# Altium footprint library pth-connector.PcbLib: 13 footprints
Each footprint in its own frame and in the unit in brackets; x right, y up, seen from the top. Pads: shape width x height; smd on the part's side, far side on the other; paste and mask are expansions set on the pad; w line width, h text height; cw(c..) or ccw(c..) is an arc to the next point about the centre after c.
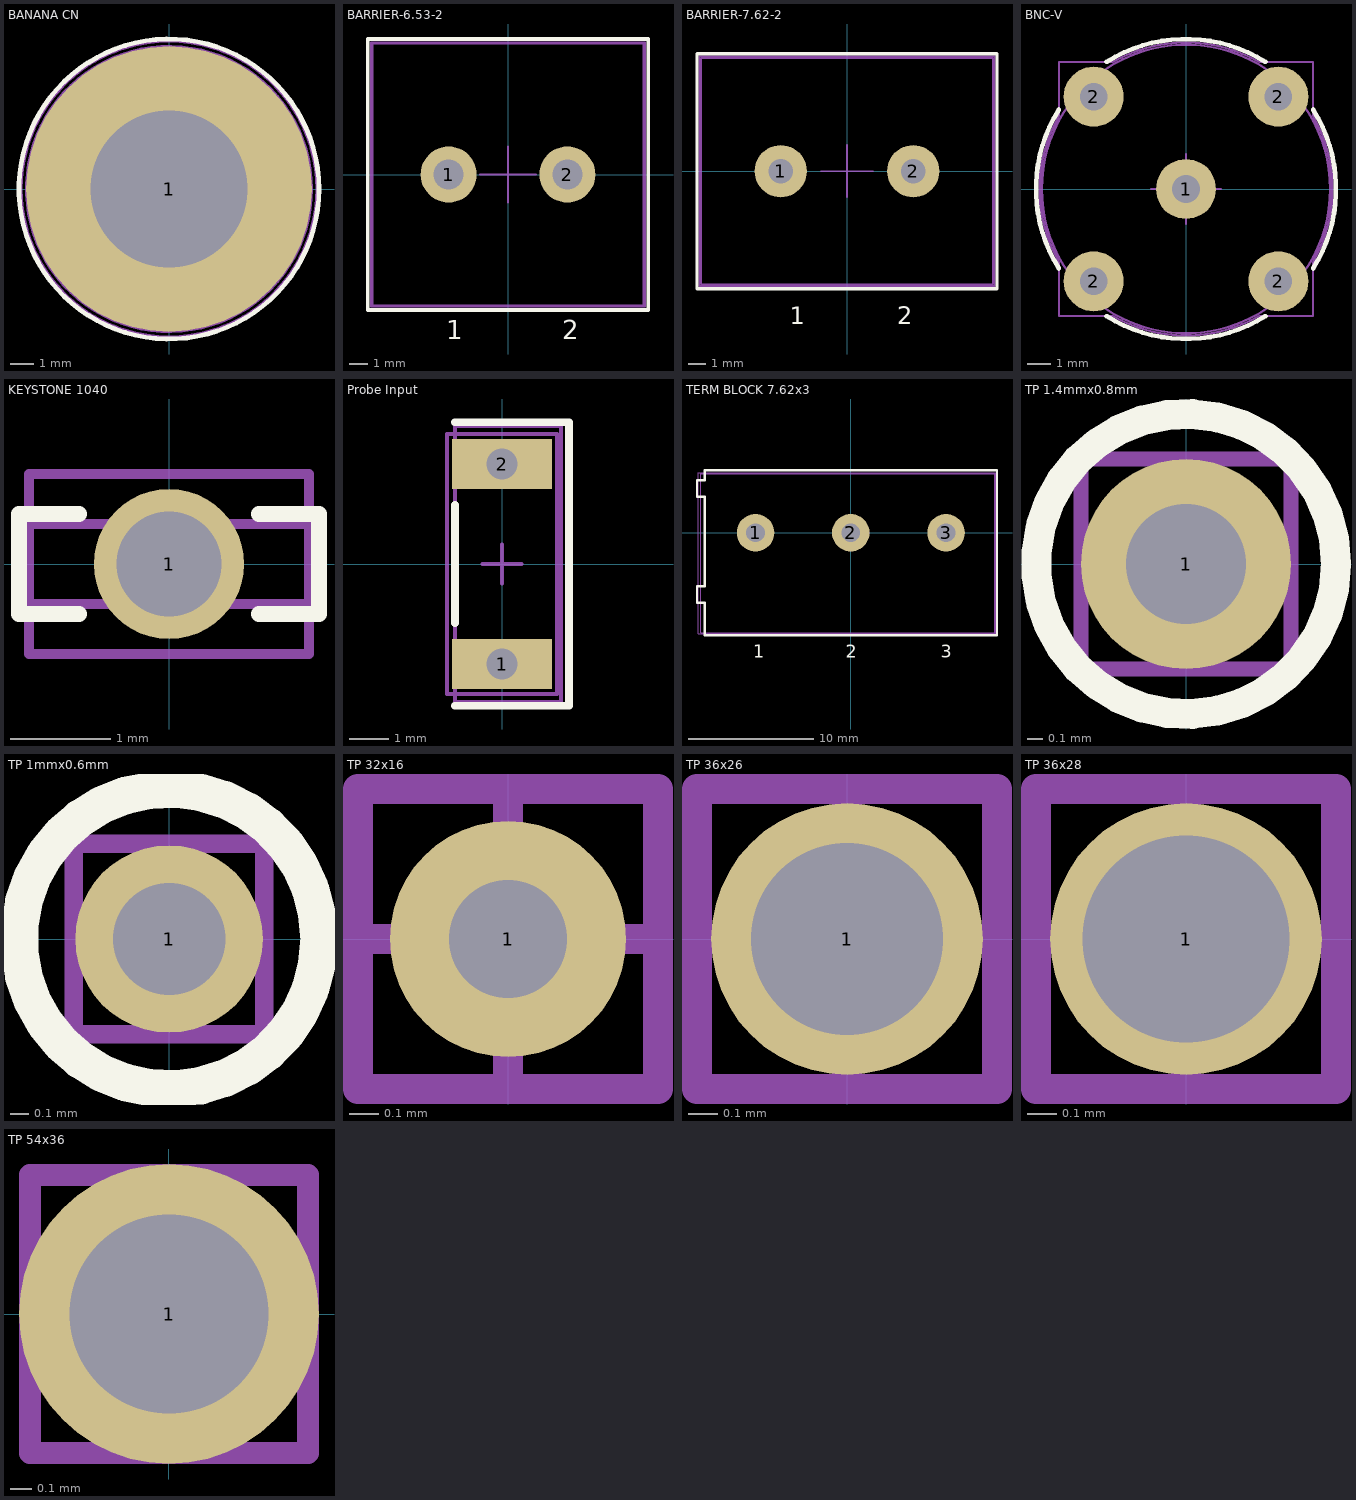
[diagram p0: the footprints below, top view; thin cyan lines are the x and y axes]

## BANANA CN [mm]
height 0.1
pads (1):
  round 12 hole 6.6: 1(0,0)
Top Overlay:
  circle w0.2: c0,0 r6.3
Top Outline:
  circle w0.1: c0,0 r6
  lines w0.1: -2.4,0 2.4,0 ; 0,-2.2 0,2.2
Top Assembly:
  circle w0.1: c0,0 r6.2
  text ".Designator" at -0.6,-0.2 h0.5
3D body: height 8, standoff 0, extent -3.237,-3.244 3.237,3.244

## BARRIER-6.53-2 [mm] "Barrier Terminal Block; 6.35 Pitch; 2 Positions"
height 15
pads (2):
  round 3 hole 1.6: 1(-3.175,0) 2(3.175,0)
Top Overlay:
  lines w0.2: -7.5,-7.25 -7.5,7.25 7.5,7.25 7.5,-7.25 -7.5,-7.25
  text "2" at 2.9,-8.8 h1.02
  text "1" at -3.3,-8.8 h1.02
Top Outline:
  lines w0.1: -1.5,0 1.5,0 ; 0,-1.5 0,1.5 ; -7.25,-7 7.25,-7 7.25,7 -7.25,7 -7.25,-7
Top Assembly:
  lines w0.1: -7.325,-7.075 7.325,-7.075 7.325,7.075 -7.325,7.075 -7.325,-7.075
  text ".Designator" at -2.45,-4.35 h0.5
3D body: height 7.5, standoff 0, extent -5.65,-6 -0.7,6
3D body: height 7.5, standoff 0, extent 0.7,-6 5.65,6.1
3D body: height 15, standoff 0, extent -0.7,-7 0.7,7
3D body: height 15, standoff 0, extent -7.25,-7 -5.65,7
3D body: height 15, standoff 0, extent 5.65,-7 7.25,7
3D body: height 10, standoff 7.5, extent -5.167,-1.996 -1.183,1.996
3D body: height 10, standoff 7.5, extent 1.183,-1.996 5.167,1.996

## BARRIER-7.62-2 [mm] "Barrier Terminal Block; 7.62mm Pitch; 2 Positions"
height 14.5
pads (2):
  round 3 hole 1.4: 1(-3.81,0) 2(3.81,0)
Top Overlay:
  lines w0.2: -8.625,-6.75 8.625,-6.75 8.625,6.75 -8.625,6.75 -8.625,-6.75
  text "1" at -3.3,-8.8 h1.02
  text "2" at 2.9,-8.8 h1.02
Top Outline:
  lines w0.1: -1.5,0 1.5,0 ; 0,-1.5 0,1.5 ; -8.375,-6.5 -8.375,6.5 8.375,6.5 8.375,-6.5 -8.375,-6.5
Top Assembly:
  lines w0.1: -8.475,-6.6 -8.475,6.6 8.475,6.6 8.475,-6.6 -8.475,-6.6
  text ".Designator" at -2.45,-4.35 h0.5
3D body "st-313.stp": height 14.5, standoff -4, extent -8.37,-6.5 8.37,6.5

## BNC-V [mm] "Connector; BNC Vertical"
height 12
pads (5):
  round 2.6 hole 1.2: 1(0,0) 2(-4,-4) 2(-4,4) 2(4,-4) 2(4,4)
Top Overlay:
  lines w0.2: -5.512,-3.444 cw(c0,0) -5.512,3.444 ; -3.444,-5.512 ccw(c0,0) 3.444,-5.512 ; -3.444,5.512 cw(c0,0) 3.444,5.512 ; 5.512,-3.444 ccw(c0,0) 5.512,3.444
Top Outline:
  circle w0.1: c0,0 r6.25
  lines w0.1: -1.5,0 1.5,0 ; 0,-1.5 0,1.5
Top Assembly:
  lines w0.1: -5.5,-3.175 -5.5,-5.5 -3.175,-5.5 ; -5.5,3.175 -5.5,5.5 -3.175,5.5 ; -5.499,-3.175 cw(c0,0) -5.499,3.175 ; -3.175,-5.499 ccw(c0,0) 3.175,-5.499 ; -3.175,5.499 cw(c0,0) 3.175,5.499 ; 3.175,-5.5 5.5,-5.5 5.5,-3.175 ; 3.175,5.5 5.5,5.5 5.5,3.175 ; 5.499,-3.175 ccw(c0,0) 5.499,3.175
  text ".Designator" at -2.25,-2.25 h0.5
3D body "c-5414394-01-o-3d.stp": height 16.6, standoff -4.48, extent -5.512,-5.512 5.512,5.512

## KEYSTONE 1040 [mm] "Test point, 2.8mm"
height 0.1
pads (1):
  round 1.5 hole 1.05: 1(0,0)
Top Overlay:
  lines w0.16: -0.9,-0.5 -1.5,-0.5 -1.5,0.5 -0.9,0.5 ; 0.9,-0.5 1.5,-0.5 1.5,0.5 0.9,0.5
Top Outline:
  lines w0.1: -0.5,0 0.5,0 ; 0,-0.5 0,0.5 ; -1.4,-0.4 -1.4,0.4 1.4,0.4 1.4,-0.4 -1.4,-0.4
Top Assembly:
  lines w0.1: -1.4,-0.9 -1.4,0.9 1.4,0.9 1.4,-0.9 -1.4,-0.9
  text ".Designator" at -1.2,-0.2 h0.5
3D body: height 0, standoff -2.9, extent -0.4,-0.3 0.4,0.3
3D body: height 6.6, standoff 6.2, extent -0.6,-0.3 0.6,0.3
3D body: height 7, standoff 1.8, extent 0.6,-0.3 1.4,0.3
3D body: height 7, standoff 1.8, extent -1.4,-0.3 -0.6,0.3
3D body: height 2.2, standoff 0, extent -1.2,-0.3 1.2,0.3

## Probe Input [mil]
height 78.74
pads (2):
  rect 100x50 / inner round 44 / far side round 44 hole 31: 1(0,-100) 2(0,100)
Top Overlay:
  lines w7.87: -47.24,-141.73 66.93,-141.73 66.93,141.73 -47.24,141.73 ; -47.24,-59.06 -47.24,59.06
Top Outline:
  lines w3.94: -19.68,0 19.68,0 ; 0,-19.68 0,19.69 ; -55.12,-129.92 55.12,-129.92 55.12,129.92 -55.12,129.92 -55.12,-129.92
Top Assembly:
  lines w3.94: -47.24,-137.8 59.06,-137.8 59.06,137.8 -47.24,137.8 -47.24,-137.8
  text ".Designator" at 7.87,-59.06 h19.68

## TERM BLOCK 7.62x3 [mm] "Terminal Block; 7.62 mm Pitch; 3 Positions"
height 10
pads (3):
  round 3 hole 1.5: 1(-7.62,0) 2(0,0) 3(7.62,0)
Top Overlay:
  lines w0.2: -12.3,-5.6 -12.3,-4.3 -11.7,-4.3 -11.7,2.9 -12.3,2.9 -12.3,4.2 -11.7,4.2 -11.7,5 11.7,5 11.7,-8.2 -11.7,-8.2 -11.7,-5.6 -12.3,-5.6
  text "3" at 7.2,-10 h1.02
  text "1" at -7.8,-10 h1.02
  text "2" at -0.4,-10 h1.02
Top Outline:
  lines w0.1: -1.5,0 1.5,0 ; 0,-1.5 0,1.5 ; -12,-8 -12,4.7 11.5,4.7 11.5,-8 -12,-8
Top Assembly:
  lines w0.1: -12.2,-8.1 -12.2,4.8 11.6,4.8 11.6,-8.1 -12.2,-8.1
  text ".Designator" at -3,-2.4 h0.8
3D body "1704936_03.stp": height 21.6, standoff -4.9, extent -12.015,-7.9 11.415,4.6

## TP 1.4mmx0.8mm [mm] "Test point, 1.4mm pad, 0.8mm hole"
pads (1):
  round 1.4 / inner round 1.2 / far side round 1.4 hole 0.8: 1(0,0)
Top Overlay:
  circle w0.2: c0,0 r1
Top Outline:
  lines w0.1: -0.5,0 0.5,0 ; 0,-0.5 0,0.5 ; -0.7,-0.7 -0.7,0.7 0.7,0.7 0.7,-0.7 -0.7,-0.7
Top Assembly:
  lines w0.1: -0.7,-0.7 -0.7,0.7 0.7,0.7 0.7,-0.7 -0.7,-0.7
  text ".Designator" at 1.2,-0.3 h0.5

## TP 1mmx0.6mm [mm] "Test point, 1mm pad, 0.6mm hole"
pads (1):
  round 1 hole 0.6: 1(0,0)
Top Overlay:
  circle w0.2: c0,0 r0.8
Top Outline:
  lines w0.1: -0.5,0 0.5,0 ; 0,-0.5 0,0.5 ; -0.508,-0.508 0.508,-0.508 0.508,0.508 -0.508,0.508 -0.508,-0.508
Top Assembly:
  lines w0.1: -0.508,-0.508 0.508,-0.508 0.508,0.508 -0.508,0.508 -0.508,-0.508
  text ".Designator" at 0.635,-0.635 h0.5

## TP 32x16 [mm] "Test point, 32mil pad, 16mil hole"
height 0.1
pads (1):
  round 0.8 / inner round 0.6 / far side round 0.8 hole 0.4: 1(0,0)
Top Outline:
  lines w0.1: -0.5,0 0.5,0 ; 0,-0.5 0,0.5 ; -0.508,-0.508 0.508,-0.508 0.508,0.508 -0.508,0.508 -0.508,-0.508
Top Assembly:
  lines w0.1: -0.508,-0.508 0.508,-0.508 0.508,0.508 -0.508,0.508 -0.508,-0.508
  text ".Designator" at 0.635,-0.635 h0.5

## TP 36x26 [mm] "Test point, 36mil pad, 26mil hole"
height 0.1
pads (1):
  round 0.92 hole 0.65: 1(0,0)
Top Outline:
  lines w0.1: -0.5,0 0.5,0 ; 0,-0.5 0,0.5 ; -0.508,-0.508 -0.508,0.508 0.508,0.508 0.508,-0.508 -0.508,-0.508
Top Assembly:
  lines w0.1: -0.508,-0.508 -0.508,0.508 0.508,0.508 0.508,-0.508 -0.508,-0.508
  text ".Designator" at 0.635,-0.635 h0.5

## TP 36x28 [mm] "Test point, 36mil pad, 28mil hole"
height 0.1
pads (1):
  round 0.92 hole 0.7: 1(0,0)
Top Outline:
  lines w0.1: -0.5,0 0.5,0 ; 0,-0.5 0,0.5 ; -0.508,-0.508 -0.508,0.508 0.508,0.508 0.508,-0.508 -0.508,-0.508
Top Assembly:
  lines w0.1: -0.508,-0.508 -0.508,0.508 0.508,0.508 0.508,-0.508 -0.508,-0.508
  text ".Designator" at 0.635,-0.635 h0.5

## TP 54x36 [mm] "Test point, 54mil pad, 36mil hole"
height 0.1
pads (1):
  round 1.37 hole 0.91: 1(0,0)
Top Outline:
  lines w0.1: -0.5,0 0.5,0 ; 0,-0.5 0,0.5 ; -0.635,-0.635 0.635,-0.635 0.635,0.635 -0.635,0.635 -0.635,-0.635
Top Assembly:
  lines w0.1: -0.635,-0.635 0.635,-0.635 0.635,0.635 -0.635,0.635 -0.635,-0.635
  text ".Designator" at 0.635,-0.635 h0.5